# Altium footprint library PcbLib1.PcbLib: 26 footprints (part 2 of 2)
Each footprint in its own frame and in the unit in brackets; x right, y up, seen from the top. Pads: shape width x height; smd on the part's side, far side on the other; paste and mask are expansions set on the pad; w line width, h text height; cw(c..) or ccw(c..) is an arc to the next point about the centre after c.
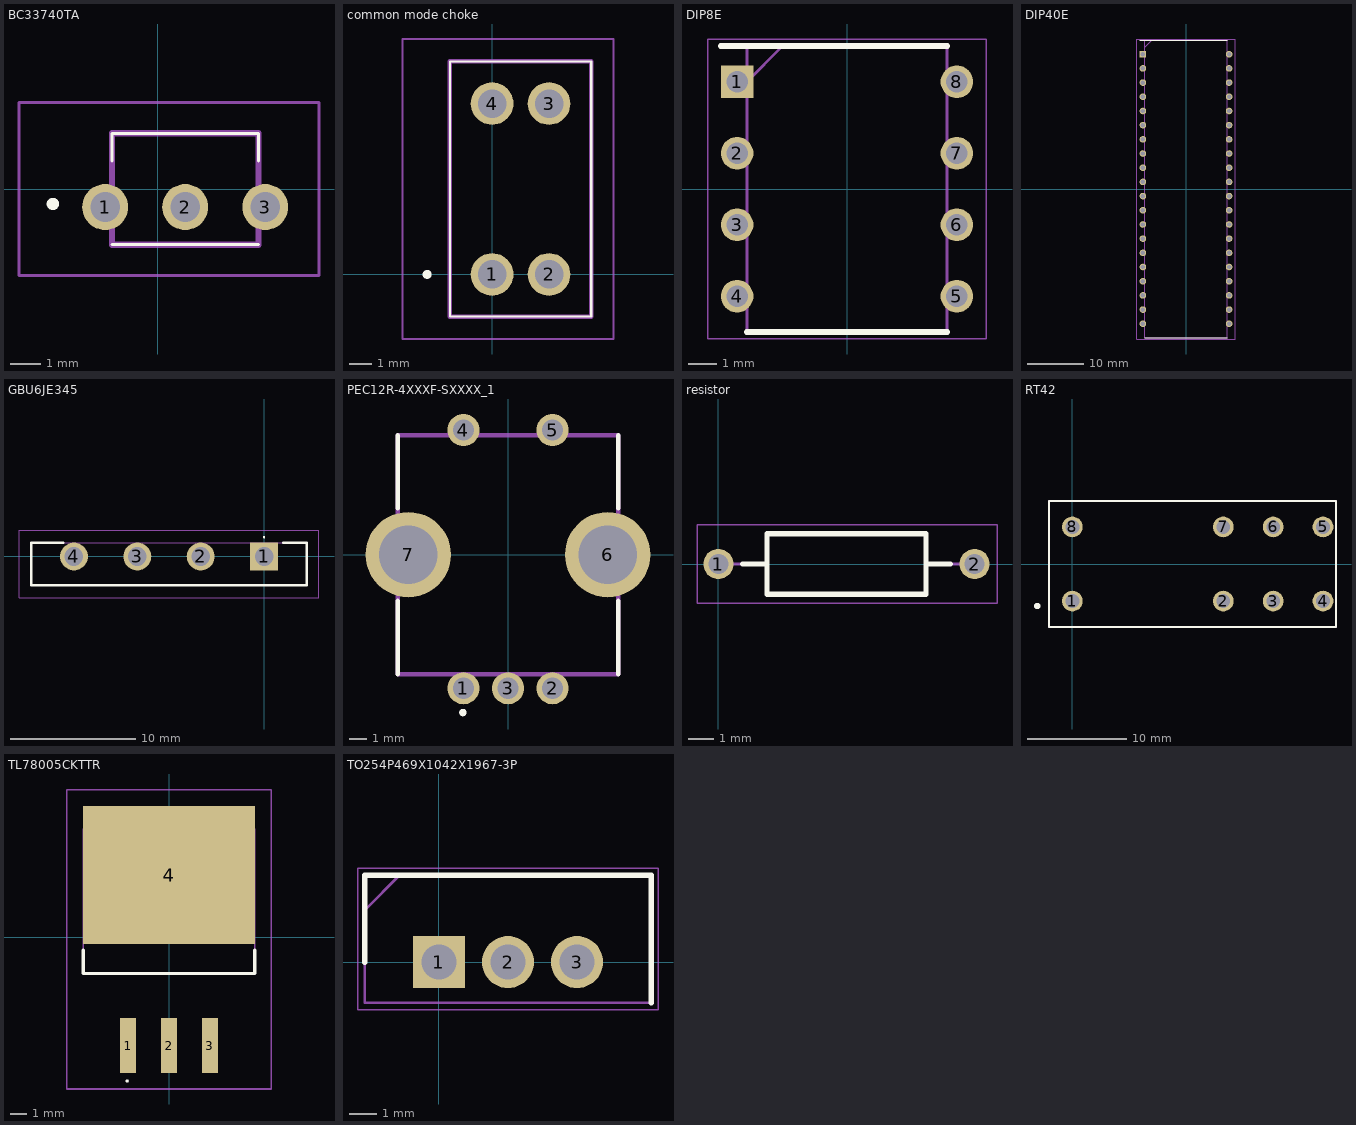
[diagram p1: the footprints below, top view; thin cyan lines are the x and y axes]

## BC33740TA [mm]
pads (3):
  round 1.493 hole 0.96: 1(-1.7,-0.585) 2(0.9,-0.585) 3(3.5,-0.585)
Top Overlay:
  lines w0.1: -1.48,-1.81 3.28,-1.81 ; -1.48,0.915 -1.48,1.81 3.28,1.81 3.28,0.915
  lines w0.2: -3.4,-0.585 cw(c-3.4,-0.485) -3.4,-0.385 cw(c-3.4,-0.485) -3.4,-0.585
Mechanical 13:
  lines w0.2: -1.48,-1.81 3.28,-1.81 3.28,1.81 -1.48,1.81 -1.48,-1.81
Mechanical 15:
  lines w0.1: -4.5,-2.81 5.247,-2.81 5.247,2.81 -4.5,2.81 -4.5,-2.81
3D body "BC557ATA.stp": height 8.67, standoff -13.1, extent -2.2,-2.42 3.96,1.71

## common mode choke [mm]
pads (4):
  round 1.905 hole 1.27: 1(0,0) 2(2.54,0) 3(2.54,7.62) 4(0,7.62)
Top Overlay:
  lines w0.1: -1.88,-1.88 4.42,-1.88 4.42,9.5 -1.88,9.5 -1.88,-1.88
  lines w0.2: -3,0 ccw(c-2.9,0) -2.8,0 ccw(c-2.9,0) -3,0
Mechanical 13:
  lines w0.2: -1.88,-1.88 4.42,-1.88 4.42,9.5 -1.88,9.5 -1.88,-1.88
Mechanical 15:
  lines w0.1: -4,-2.88 5.42,-2.88 5.42,10.5 -4,10.5 -4,-2.88
3D body "CM2545X171B-10.stp": height 9.6, standoff -5, extent -1.88,-1.88 4.42,9.5

## DIP8E [mm]
pads (8):
  rect 1.158x1.158 hole 0.758: 1(-3.905,3.81)
  round 1.158 hole 0.758: 2(-3.905,1.27) 3(-3.905,-1.27) 4(-3.905,-3.81) 5(3.905,-3.81) 6(3.905,-1.27) 7(3.905,1.27) 8(3.905,3.81)
Top Overlay:
  lines w0.2: -4.484,5.08 3.556,5.08 ; -3.556,-5.08 3.556,-5.08
Mechanical 13:
  lines w0.1: -3.556,3.81 -2.286,5.08 ; -3.556,-5.08 -3.556,5.08 3.556,5.08 3.556,-5.08 -3.556,-5.08
Mechanical 15:
  lines w0.05: -4.956,-5.33 -4.956,5.33 4.956,5.33 4.956,-5.33 -4.956,-5.33
3D body "MCP6002-E_P.stp": height 5.33, standoff -3.5, extent -4.045,-4.75 4.045,4.75

## DIP40E [mm]
pads (40):
  rect 1.184x1.184 hole 0.784: 1(-7.715,24.13)
  round 1.184 hole 0.784: 2(-7.715,21.59) 3(-7.715,19.05) 4(-7.715,16.51) 5(-7.715,13.97) 6(-7.715,11.43) 7(-7.715,8.89) 8(-7.715,6.35) 9(-7.715,3.81) 10(-7.715,1.27) 11(-7.715,-1.27) 12(-7.715,-3.81) 13(-7.715,-6.35) 14(-7.715,-8.89) 15(-7.715,-11.43) 16(-7.715,-13.97) 17(-7.715,-16.51) 18(-7.715,-19.05) 19(-7.715,-21.59) 20(-7.715,-24.13) 21(7.715,-24.13) 22(7.715,-21.59) 23(7.715,-19.05) 24(7.715,-16.51) 25(7.715,-13.97) 26(7.715,-11.43) 27(7.715,-8.89) 28(7.715,-6.35) 29(7.715,-3.81) 30(7.715,-1.27) 31(7.715,1.27) 32(7.715,3.81) 33(7.715,6.35) 34(7.715,8.89) 35(7.715,11.43) 36(7.715,13.97) 37(7.715,16.51) 38(7.715,19.05) 39(7.715,21.59) 40(7.715,24.13)
Top Overlay:
  lines w0.2: -8.307,26.606 7.366,26.606 ; -7.366,-26.606 7.366,-26.606
Mechanical 13:
  lines w0.1: -7.366,25.336 -6.096,26.606 ; -7.366,-26.606 7.366,-26.606 7.366,26.606 -7.366,26.606 -7.366,-26.606
Mechanical 15:
  lines w0.05: -8.78,-26.856 8.78,-26.856 8.78,26.856 -8.78,26.856 -8.78,-26.856
3D body "ATMEGA4809-PF.stp": height 6.35, standoff -3.5, extent -7.861,-25.876 7.861,25.876

## GBU6JE345 [mm]
pads (4):
  rect 2.235x2.235 hole 1.49: 1(0,0)
  round 2.235 hole 1.49: 2(-5.08,0) 3(-10.16,0) 4(-15.24,0)
Top Overlay:
  lines w0.1: 0,1.5 cw(c0,1.55) 0,1.6 cw(c0,1.55) 0,1.5
  lines w0.2: -16.08,1.108 -18.645,1.108 -18.645,-2.322 3.405,-2.322 3.405,1.108 1.52,1.108
Mechanical 13:
  lines w0.1: -18.645,-2.322 3.405,-2.322 3.405,1.108 -18.645,1.108 -18.645,-2.322
Mechanical 15:
  lines w0.1: -19.645,-3.322 4.405,-3.322 4.405,2.117 -19.645,2.117 -19.645,-3.322
3D body "GBU6J-E3_45.stp": height 18.9, standoff -5, extent -18.645,-2.322 3.405,1.108

## PEC12R-4XXXF-SXXXX_1 [mm]
pads (7):
  round 1.8 hole 1.2: 1(-2.5,-7.5) 2(2.5,-7.5) 3(0,-7.5) 4(-2.5,7) 5(2.5,7)
  round 4.8 hole 3.28: 6(5.6,0) 7(-5.6,0)
Top Overlay:
  circle w0.254: c-2.533,-8.863 r0.082
  lines w0.254: -6.2,-6.7 -6.2,-2.6 ; -6.2,2.6 -6.2,6.7 ; 6.2,-6.7 6.2,-2.6 ; 6.2,2.6 6.2,6.7
Mechanical 13:
  lines w0.254: -6.2,-6.7 6.2,-6.7 6.2,6.7 -6.2,6.7 -6.2,-6.7
3D body "PEC11R-4225F-S0024.stp": height 31.51, standoff -3.69, extent -7.005,-7.751 6.995,7.149

## resistor [mm]
pads (2):
  round 1.2 hole 0.8: 1(0,0) 2(10.16,0)
Top Overlay:
  lines w0.2: 0.95,0 1.905,0 ; 8.255,0 9.21,0 ; 1.93,-1.2 8.23,-1.2 8.23,1.2 1.93,1.2 1.93,-1.2
Mechanical 13:
  lines w0.1: 0,0 1.905,0 ; 8.255,0 10.16,0 ; 1.93,-1.2 8.23,-1.2 8.23,1.2 1.93,1.2 1.93,-1.2
Mechanical 15:
  lines w0.05: -0.85,-1.55 -0.85,1.55 11.049,1.55 11.049,-1.55 -0.85,-1.55
3D body: height 0, standoff 0, extent -0.254,-1.297 10.414,1.297

## RT42 [mm]
pads (8):
  round 2.1 hole 1.4: 1(0,-3.75) 2(15.26,-3.75) 3(20.3,-3.75) 4(25.34,-3.75) 5(25.34,3.75) 6(20.3,3.75) 7(15.26,3.75) 8(0,3.75)
Top Overlay:
  circle w0.4: c-3.547,-4.246 r0.126
  lines w0.2: -2.35,-6.35 -2.35,6.35 26.65,6.35 26.65,-6.35 -2.35,-6.35
Mechanical 13:
  lines w0.2: -2.35,-6.35 -2.35,6.35 26.65,6.35 26.65,-6.35 -2.35,-6.35
3D body "RT424005.stp": height 15.86, standoff -2.94, extent -2.21,-6.35 26.79,6.35

## TL78005CKTTR [mm]
pads (4):
  rect 1x3.4 smd: 1(-2.54,-6.745) 2(0,-6.745) 3(2.54,-6.745)
  rect 10.7x8.6 smd: 4(0,3.855)
Top Overlay:
  lines w0.1: -2.6,-9 cw(c-2.6,-8.95) -2.6,-8.9 cw(c-2.6,-8.95) -2.6,-9
  lines w0.2: -5.33,-0.8 -5.33,-2.27 5.33,-2.27 5.33,-0.8
Mechanical 13:
  lines w0.1: -5.33,-2.27 -5.33,6.745 5.33,6.745 5.33,-2.27 -5.33,-2.27
Mechanical 15:
  lines w0.1: -6.35,-9.445 -6.35,9.155 6.35,9.155 6.35,-9.445 -6.35,-9.445

## TO254P469X1042X1967-3P [mm]
pads (3):
  rect 1.92x1.92 hole 1.28: 1(0,0)
  round 1.92 hole 1.28: 2(2.54,0) 3(5.08,0)
Top Overlay:
  lines w0.2: -2.73,0 -2.73,3.195 7.81,3.195 7.81,-1.495
Mechanical 13:
  lines w0.1: -2.73,1.925 -1.46,3.195 ; -2.73,-1.495 -2.73,3.195 7.81,3.195 7.81,-1.495 -2.73,-1.495
Mechanical 15:
  lines w0.05: -2.98,-1.745 -2.98,3.445 8.06,3.445 8.06,-1.745 -2.98,-1.745
3D body "IRF9Z34NPBF.stp": height 18.84, standoff -17.51, extent -2.668,-1.495 7.748,3.195